# EAGLE library part ARDUINO_MINI_PRO (library arduino_mini_pro)
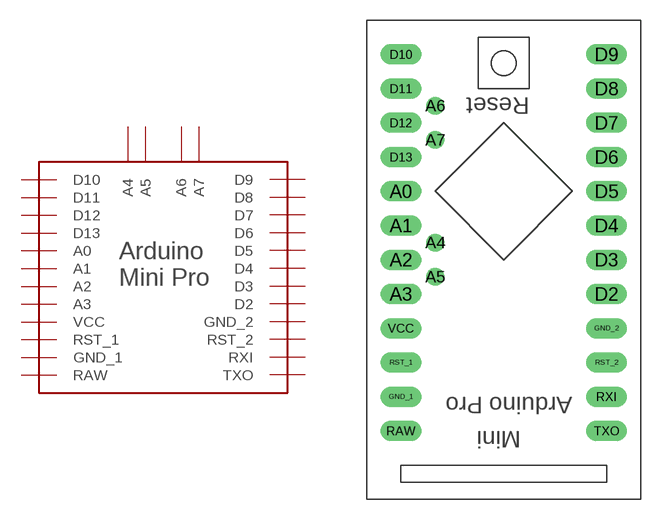
[diagram p0: symbol with the pads of ARDUINO_MINI_PRO; footprint ARDUINO_MINI_PRO]

Designator prefix -

## ARDUINO_MINI_PRO  [ARDUINO_MINI_PRO]
A0  A0
A1  A1
A2  A2
A3  A3
A4  A4
A5  A5
A6  A6
A7  A7
D2  D2
D3  D3
D4  D4
D5  D5
D6  D6
D7  D7
D8  D8
D9  D9
D10  D10
D11  D11
D12  D12
D13  D13
GND_1  GND_1
GND_2  GND_2
RAW  RAW
RST_1  RST_1
RST_2  RST_2
RXI  RXI
TXO  TXO
VCC  VCC

## Footprint ARDUINO_MINI_PRO (pad centres in mm)
drill 1 long: A0 -7.62,0; A1 -7.62,-2.54; A2 -7.62,-5.08; A3 -7.62,-7.62; D2 7.62,-7.62; D3 7.62,-5.08; D4 7.62,-2.54; D5 7.62,0; D6 7.62,2.54; D7 7.62,5.08; D8 7.62,7.62; D9 7.62,10.16; D10 -7.62,10.16; D11 -7.62,7.62; D12 -7.62,5.08; D13 -7.62,2.54; GND_1 -7.62,-15.24; GND_2 7.62,-10.16; RAW -7.62,-17.78; RST_1 -7.62,-12.7; RST_2 7.62,-12.7; RXI 7.62,-15.24; TXO 7.62,-17.78; VCC -7.62,-10.16
drill 0.8: A4 -5.08,-3.81; A5 -5.08,-6.35; A6 -5.08,6.35; A7 -5.08,3.81